# Altium schematic symbol library GENERIC_HEADER_2x6.SchLib: 1 symbol
Pins are listed as number, name and electrical type; pins without a type are passive.

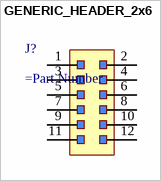
[diagram p0: symbol GENERIC_HEADER_2x6]

## GENERIC_HEADER_2x6
designator J?
=Description
pins: 1, 2, 3, 4, 5, 6, 7, 8, 9, 10, 11, 12